# Altium schematic symbol library RF Filter.SchLib: 7 symbols
Pins are listed as number, name and electrical type; pins without a type are passive.

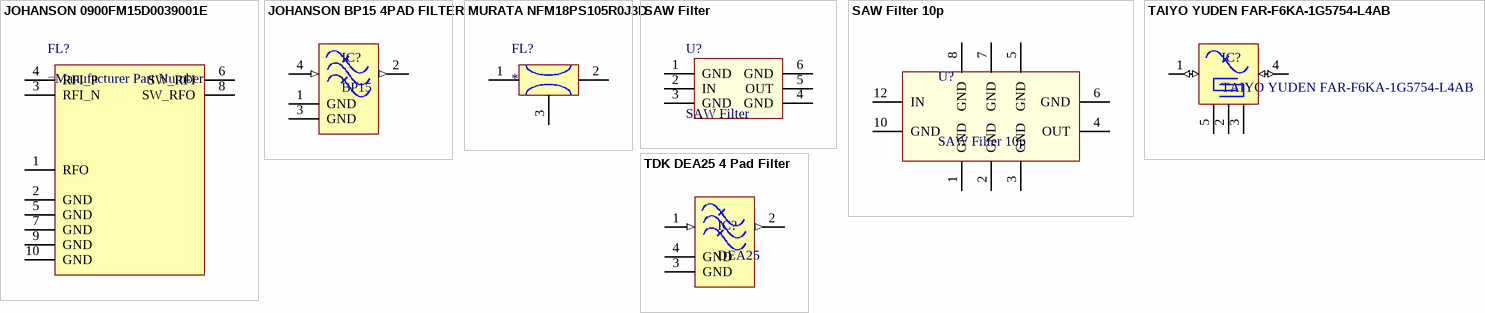
[diagram p0: symbols JOHANSON 0900FM15D0039001E to TDK DEA25 4 Pad Filter]

## JOHANSON 0900FM15D0039001E
designator FL?
No Description Available
footprint JOHANSON 0900FM15D0039E
pins: 1 RFO, 2 GND, 3 RFI_N, 4 RFI_P, 5 GND, 6 SW_RFI, 7 GND, 8 SW_RFO, 9 GND, 10 GND

## JOHANSON BP15 4PAD FILTER
designator IC?, comment BP15
footprint JOHANSON BP15 4PAD (Johanson RF Filter)
pins: 1 GND "Desc1", 2 OUT (out) "Desc1", 3 GND "Desc1", 4 IN (in) "Desc1"

## MURATA NFM18PS105R0J3D
designator FL?
pins: 1, 2, 3

## SAW Filter
designator U?
SAW Filter - Bandpass - TEMEX type; LatestRevisionDate: 05-oct-2007  -  Semtech
footprint SC70-6 (SC70 6-Leads, Body 2.0x1.25mm, Pitch 0.65mm)
footprint DCC6C_3.0x3.0mm (DCC6C footprint, 3.0x3.0mm)
pins: 1 GND, 2 IN, 3 GND, 4 GND, 5 OUT, 6 GND

## SAW Filter 10p
designator U?
SAW Filter 10p  - Bandpass - RFM type; LatestRevisionDate: 05-oct-2007  -  Semtech
footprint 7.0x5.0mm SMD package (7.0x5.0mm SMD package - 10pins)
pins: 1 GND, 2 GND, 3 GND, 4 OUT, 5 GND, 6 GND, 7 GND, 8 GND, 10 GND, 12 IN

## TAIYO YUDEN FAR-F6KA-1G5754-L4AB
designator IC?
GPS SAW Filter Taiyo Yuden
footprint TAIYO YUDEN SMD-5 1.4x1mm (5-SMD 5 Leads 1.4 x 1.0 SAW Filter)
pins: 1 IN (io) "Desc1", 2 GND "Desc1", 3 GND "Desc1", 4 OUT (io) "Desc1", 5 GND "Desc1"

## TDK DEA25 4 Pad Filter
designator IC?, comment DEA25
Multilayer chip band pass filter
footprint TDK 1008 4PAD (1008 4PC Pin RF Filter Chip)
pins: 1 IN (in) "Desc1", 2 OUT (out) "Desc1", 3 GND "Desc1", 4 GND "Desc1"